# EAGLE library part FX2B-40PA-1.27DSA(71) (library TheMaker_v5)
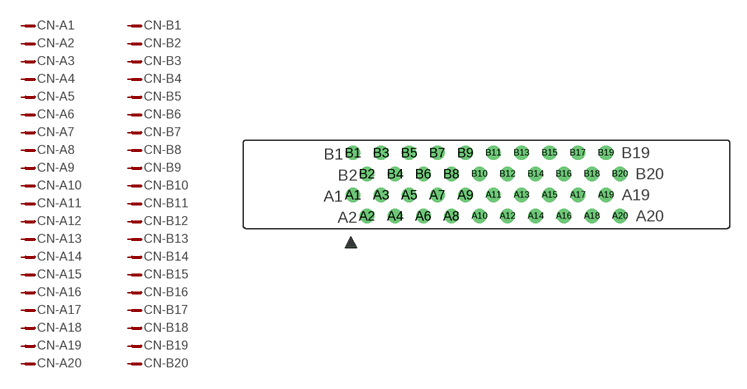
[diagram p8: symbol with the pads of FX2B-40PA-1.27DSA(71); footprint FX2B-40PA-1.27DSA(71)]

Designator prefix CN; gates -A1=PIN -A2=PIN -A3=PIN -A4=PIN -A5=PIN -A6=PIN -A7=PIN -A8=PIN -A9=PIN -A10=PIN -A11=PIN -A12=PIN -A13=PIN -A14=PIN -A15=PIN -A16=PIN -A17=PIN -A18=PIN -A19=PIN -A20=PIN -B1=PIN -B2=PIN -B3=PIN -B4=PIN -B5=PIN -B6=PIN -B7=PIN -B8=PIN -B9=PIN -B10=PIN -B11=PIN -B12=PIN -B13=PIN -B14=PIN -B15=PIN -B16=PIN -B17=PIN -B18=PIN -B19=PIN -B20=PIN

## FX2B-40PA-1.27DSA(71)  [FX2B-40PA-1.27DSA(71)]
A1  -A1:P$1
A2  -A2:P$1
A3  -A3:P$1
A4  -A4:P$1
A5  -A5:P$1
A6  -A6:P$1
A7  -A7:P$1
A8  -A8:P$1
A9  -A9:P$1
A10  -A10:P$1
A11  -A11:P$1
A12  -A12:P$1
A13  -A13:P$1
A14  -A14:P$1
A15  -A15:P$1
A16  -A16:P$1
A17  -A17:P$1
A18  -A18:P$1
A19  -A19:P$1
A20  -A20:P$1
B1  -B1:P$1
B2  -B2:P$1
B3  -B3:P$1
B4  -B4:P$1
B5  -B5:P$1
B6  -B6:P$1
B7  -B7:P$1
B8  -B8:P$1
B9  -B9:P$1
B10  -B10:P$1
B11  -B11:P$1
B12  -B12:P$1
B13  -B13:P$1
B14  -B14:P$1
B15  -B15:P$1
B16  -B16:P$1
B17  -B17:P$1
B18  -B18:P$1
B19  -B19:P$1
B20  -B20:P$1

## Footprint FX2B-40PA-1.27DSA(71) (pad centres in mm)
drill 0.8: A1 -12.065,-0.953; A2 -10.795,-2.857; A3 -9.525,-0.953; A4 -8.255,-2.857; A5 -6.985,-0.953; A6 -5.715,-2.857; A7 -4.445,-0.953; A8 -3.175,-2.857; A9 -1.905,-0.953; A10 -0.635,-2.857; A11 0.635,-0.953; A12 1.905,-2.857; A13 3.175,-0.953; A14 4.445,-2.857; A15 5.715,-0.953; A16 6.985,-2.857; A17 8.255,-0.953; A18 9.525,-2.857; A19 10.795,-0.953; A20 12.065,-2.857; B1 -12.065,2.857; B2 -10.795,0.953; B3 -9.525,2.857; B4 -8.255,0.953; B5 -6.985,2.857; B6 -5.715,0.953; B7 -4.445,2.857; B8 -3.175,0.953; B9 -1.905,2.857; B10 -0.635,0.953; B11 0.635,2.857; B12 1.905,0.953; B13 3.175,2.857; B14 4.445,0.953; B15 5.715,2.857; B16 6.985,0.953; B17 8.255,2.857; B18 9.525,0.953; B19 10.795,2.857; B20 12.065,0.953